# Altium schematic symbol library Kill_Switch_Testing.SchLib: 3 symbols
Pins are listed as number, name and electrical type; pins without a type are passive.

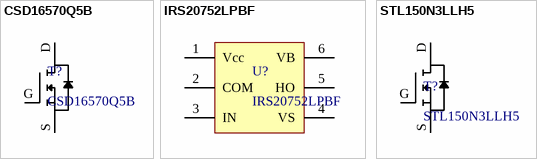
[diagram p0: symbols CSD16570Q5B to STL150N3LLH5]

## CSD16570Q5B
designator T?
25-V N-Channel NexFET™ Power MOSFET
footprint CSD16570Q5B (25-V N-Channel NexFET™ Power MOSFET)
pins: D Drain, G Gate, S Source

## IRS20752LPBF
designator U?
SOT-23 High-Side Gate Driver IC
footprint IRS20752LPBF (SOT-23 High-Side Gate Driver IC)
pins: 1 Vcc, 2 COM, 3 IN, 4 VS, 5 HO, 6 VB

## STL150N3LLH5
designator T?
N-channel 30 V, 0.0014 Ω typ., 35 A STripFET™ V Power MOSFET
footprint STL150N3LLH5 (N-channel 30 V, 0.0014 ? typ., 35 A STripFET™ V Power MOSFET)
pins: D Drain, G Gate, S Source